# Altium schematic symbol library lib_caddock.SchLib: 1 symbol
Pins are listed as number, name and electrical type; pins without a type are passive.

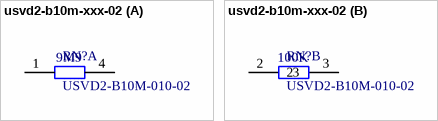
[diagram p0: symbol usvd2-b10m-xxx-02]

## usvd2-b10m-xxx-02
designator RN?, comment USVD2-B10M-010-02
USVD Ultra-Precision Voltage Dividers; ComponentLink1Description: Datasheet; ComponentLink1URL: http://www.caddock.com/Online_catalog/Mrktg_Lit/TypeUSVD_HVD.pdf
footprint USVD2
part A pins: 1, 4
part B pins: 2, 3
part A text: 9M9
part B text: 100K